# Altium schematic symbol library SCH - POWER - LINEAR VREG - TI LP3891ES-1.2.SchLib: 1 symbol
Pins are listed as number, name and electrical type; pins without a type are passive.

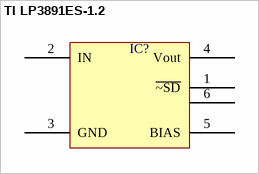
[diagram p0: symbol TI LP3891ES-1.2]

## TI LP3891ES-1.2
designator IC?  (value not drawn)
pins: 1 ~{~SD}, 2 IN, 3 GND, 4 Vout, 5 BIAS, 6